# Altium footprint library LoRaSnow_lib.PcbLib: 1 footprints
Each footprint in its own frame and in the unit in brackets; x right, y up, seen from the top. Pads: shape width x height; smd on the part's side, far side on the other; paste and mask are expansions set on the pad; w line width, h text height; cw(c..) or ccw(c..) is an arc to the next point about the centre after c.
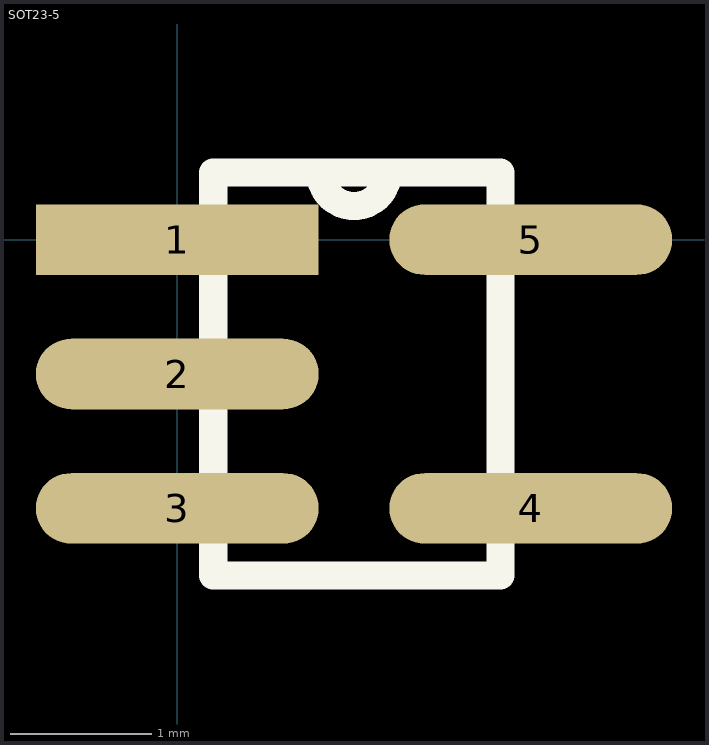
[diagram p0: the footprint, top view; thin cyan lines are the x and y axes]

## SOT23-5 [mm]
pads (5):
  rect 2x0.5 smd: 1(0,0)
  oval 2x0.5 smd: 2(0,-0.95) 3(0,-1.9) 4(2.5,-1.9) 5(2.5,0)
Top Overlay:
  lines w0.2: 0.254,-2.375 2.286,-2.375 2.286,0.475 1.012,0.475 ccw(c1.25,0.475) 1.488,0.475 0.254,0.475 0.254,-2.375